# EAGLE library part LT1528 (library _GpsAttitude)
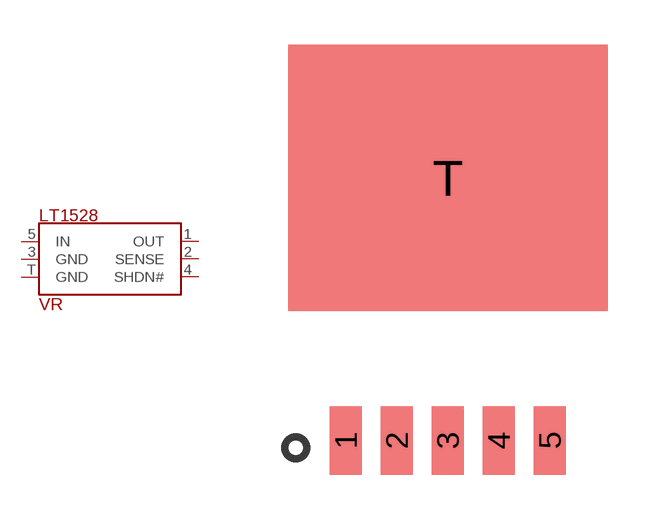
[diagram p6: symbol with the pads of DDPAK; footprint DDPAK]

Designator prefix VR

## LT1528Q  [DDPAK]
1  OUT
2  SENSE
3  GND
4  SHDN#
5  IN
T  GND

## Footprint DDPAK (pad centres in mm)
smd 1.067 x 2.286: 1 -3.404,-4.318; 2 -1.702,-4.318; 3 0,-4.318; 4 1.702,-4.318; 5 3.404,-4.318
smd 10.668 x 8.89: T 0,4.445